# EAGLE library part EMB1061 (library EMB1061)
u-blox SAM GNSS antenna module
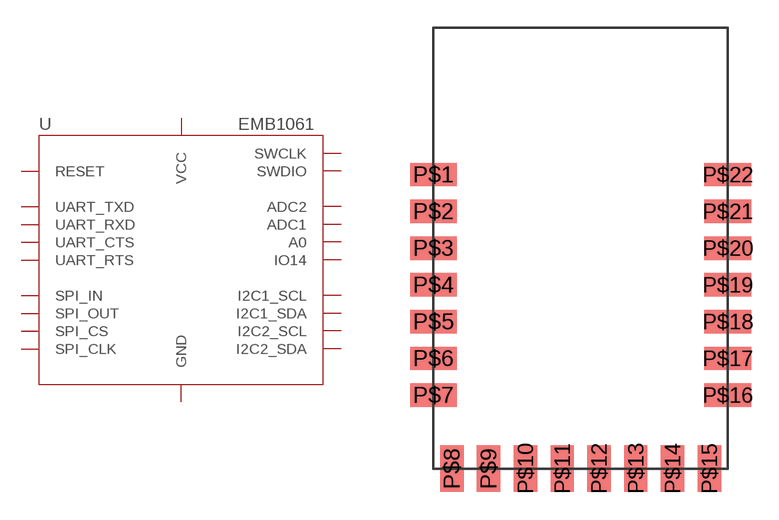
[diagram p0: symbol with the pads of EMB1061; footprint EMB1061]

Designator prefix U

## EMB1061 (AVAILABILITY: Unavailable; DESCRIPTION: u-Blox M8 Gnss Antenna Module; MF: U-Blox America; MP: SAM-M8Q; PACKAGE: SMD-20 U-Blox America; PRICE: None)  [EMB1061]
P$1  I2C1_SDA
P$2  I2C1_SCL
P$3  RESET
P$4  SWDIO
P$5  SWCLK
P$6  UART_CTS
P$7  UART_RTS
P$8  VCC
P$9  GND
P$10  UART_TXD
P$11  UART_RXD
P$12  SPI_IN
P$13  SPI_OUT
P$14  SPI_CS
P$15  SPI_CLK
P$16  I2C2_SDA
P$17  I2C2_SCL
P$18  IO14
P$19  A0
P$20  ADC1
P$21  ADC2
P$22  GND

## Footprint EMB1061 (pad centres in mm)
smd 2.54 x 1.27: P$1 -7.62,5.84; P$2 -7.62,3.84; P$3 -7.62,1.84; P$4 -7.62,-0.16; P$5 -7.62,-2.16; P$6 -7.62,-4.16; P$7 -7.62,-6.16; P$16 8.38,-6.16; P$17 8.38,-4.16; P$18 8.38,-2.16; P$19 8.38,-0.16; P$20 8.38,1.84; P$21 8.38,3.84; P$22 8.38,5.84
smd 1.27 x 2.54: P$8 -6.62,-10.16; P$9 -4.62,-10.16; P$10 -2.62,-10.16; P$11 -0.62,-10.16; P$12 1.38,-10.16; P$13 3.38,-10.16; P$14 5.38,-10.16; P$15 7.38,-10.16